# Altium schematic symbol library part_library2.SchLib: 9 symbols
Pins are listed as number, name and electrical type; pins without a type are passive.

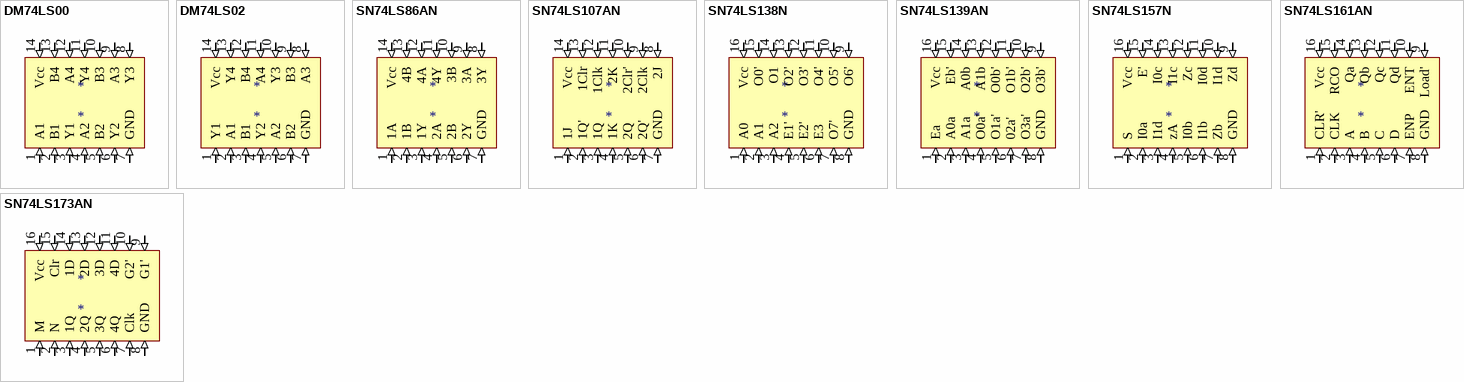
[diagram p0: symbols DM74LS00 to SN74LS173AN]

## DM74LS00
designator *
Quad NAND gate 14-pin DIP
footprint DM74LS00
pins: 1 A1 (in), 2 B1 (in), 3 Y1 (in), 4 A2 (in), 5 B2 (in), 6 Y2 (in), 7 GND (in), 8 Y3 (in), 9 A3 (in), 10 B3 (in), 11 Y4 (in), 12 A4 (in), 13 B4 (in), 14 Vcc (in)

## DM74LS02
designator *
Quad NOR gate 14-pin DIP
footprint DM74LS02
pins: 1 Y1 (in), 2 A1 (in), 3 B1 (in), 4 Y2 (in), 5 A2 (in), 6 B2 (in), 7 GND (in), 8 A3 (in), 9 B3 (in), 10 Y3 (in), 11 A4 (in), 12 B4 (in), 13 Y4 (in), 14 Vcc (in)

## SN74LS86AN
designator *
IC GATE XOR 4CH 2-INP 14-DIP; Manufacturer: Texas Instruments; Manufacturer Part Number: SN74LS86AN; Logic Function: XOR,OR; Number of Elements: 4; Propagation Delay: 30ns; Max Supply Voltage: 5.25V; Min Supply Voltage: 4.75V; Operating Supply Voltage: 5V; Number of Outputs: 1; Output Current: 8mA; Number of Inputs: 2; High Level Output Current: -400uA; Quiescent Current: 6.1mA; Schmitt Trigger Input: No; Supplier 1: Newark; Stock 1: 0; Mount: Through Hole; Case/Package: PDIP; Number of Pins: 14; Weight: 0.032734oz; Contact Plating: Gold; Min Operating Temperature: 0°C; Max Operating Temperature: 70°C; Packaging: Rail/Tube; Package Quantity: 25; Number of Circuits: 4; Number of Gates: 4; Number of Input Lines: 2; Number of Output Lines: 1; Low Level Output Current: 8mA; Turn-On Delay Time: 30ns; Number of Bits: 4; Length: 19.3mm; Height: 4.57mm; Width: 6.35mm; Radiation Hardening: No; Lead Free: Lead Free; REACH SVHC: No SVHC; ComponentLink1URL: http://focus.ti.com/lit/ds/symlink/sn74s86.pdf?src-supplier=Avnet+Europe; ComponentLink1Description: http://focus.ti.com/lit/ds/symlink/sn74s86.pdf?src-supplier=Avnet+Europe; ComponentLink2URL: https://www.distrelec.biz/Web/Downloads/39/_e/jl645539_e.pdf?mime=application%2Fpdf&src-supplier=Distrelec; ComponentLink2Description: https://www.distrelec.biz/Web/Downloads/39/_e/jl645539_e.pdf?mime=application%2Fpdf&src-supplier=Distrelec; ComponentLink3URL: http://www.produktinfo.conrad.com/datenblaetter/1000000-1099999/001017015-da-01-en-IC_QUA_2IN_EX_OR_SN74LS86AN_PDIP_14_TID.pdf?src-supplier=Conrad; ComponentLink3Description: http://www.produktinfo.conrad.com/datenblaetter/1000000-1099999/001017015-da-01-en-IC_QUA_2IN_EX_OR_SN74LS86AN_PDIP_14_TID.pdf?src-supplier=Conrad; ComponentLink4URL: http://www.produktinfo.conrad.com/datenblaetter/150000-174999/169331-da-01-en-IC_SN_74_LS_86AN_DIP14_TID.pdf?src-supplier=Conrad; ComponentLink4Description: http://www.produktinfo.conrad.com/datenblaetter/150000-174999/169331-da-01-en-IC_SN_74_LS_86AN_DIP14_TID.pdf?src-supplier=Conrad; Supplier Part Number 1: 50R6597
footprint SN74LS86AN
pins: 1 1A (in), 2 1B (in), 3 1Y (in), 4 2A (in), 5 2B (in), 6 2Y (in), 7 GND (in), 8 3Y (in), 9 3A (in), 10 3B (in), 11 4Y (in), 12 4A (in), 13 4B (in), 14 Vcc (in)

## SN74LS107AN
designator *
Flip Flop JK-Type Neg-Edge 2-Element 14-Pin PDIP Tube; Manufacturer: Texas Instruments; Manufacturer Part Number: SN74LS107AN; Operating Supply Voltage: 5V; Propagation Delay: 20ns; Frequency: 45MHz; Min Supply Voltage: 4.75V; Max Supply Voltage: 5.25V; Number of Elements: 2; Logic Function: Flip-Flop,JK-Type; Clock Edge Trigger Type: Negative Edge,Positive Edge; Output Current: 8mA; Polarity: Non-Inverting; Number of Input Lines: 4; Number of Bits per Element: 1; Turn-On Delay Time: 15ns; High Level Output Current: -400uA; Output Type: TTL; Nominal Supply Current: 100uA; Supplier 1: Newark; Stock 1: 0; Mount: Through Hole; Case/Package: PDIP; Number of Pins: 14; Weight: 0.032734oz; Min Operating Temperature: 0°C; Max Operating Temperature: 70°C; Packaging: Rail/Tube; Package Quantity: 25; Number of Circuits: 2; Low Level Output Current: 8mA; Number of Output Lines: 2; Number of Bits: 2; Max Frequency: 45MHz; Length: 19.69mm; Height: 4.57mm; Width: 6.6mm; Radiation Hardening: No; Lead Free: Lead Free; REACH SVHC: No SVHC; ComponentLink1URL: https://www.distrelec.biz/Web/Downloads/_t/ds/sn74ls107a_eng_tds.pdf?mime=application%2Fpdf&src-supplier=Distrelec; ComponentLink1Description: https://www.distrelec.biz/Web/Downloads/_t/ds/sn74ls107a_eng_tds.pdf?mime=application%2Fpdf&src-supplier=Distrelec; ComponentLink2URL: http://focus.ti.com/lit/ds/symlink/sn74107.pdf?src-supplier=Avnet+Europe; ComponentLink2Description: http://focus.ti.com/lit/ds/symlink/sn74107.pdf?src-supplier=Avnet+Europe; ComponentLink3URL: http://www.ti.com/general/docs/lit/getliterature.tsp?genericPartNumber=SN74LS107A&&fileType=pdf&src-supplier=Avnet; ComponentLink3Description: http://www.ti.com/general/docs/lit/getliterature.tsp?genericPartNumber=SN74LS107A&&fileType=pdf&src-supplier=Avnet; ComponentLink4URL: https://source.z2data.com/2016/10/12/6/26/54/563/639426/sn74107.pdf?src-supplier=Digi-Key; ComponentLink4Description: https://source.z2data.com/2016/10/12/6/26/54/563/639426/sn74107.pdf?src-supplier=Digi-Key; ComponentLink5URL: http://www.farnell.com/datasheets/1967736.pdf?src-supplier=Element14; ComponentLink5Description: http://www.farnell.com/datasheets/1967736.pdf?src-supplier=Element14; ComponentLink6URL: https://www.verical.com/server-webapp/html/getDatasheet?partID=250176&src-supplier=Verical; ComponentLink6Description: https://www.verical.com/server-webapp/html/getDatasheet?partID=250176&src-supplier=Verical; Supplier Part Number 1: 95M4428
footprint DM74LS107
pins: 1 1J (in), 2 1Q' (in), 3 1Q (in), 4 1K (in), 5 2Q (in), 6 2Q' (in), 7 GND (in), 8 2J (in), 9 2Clk (in), 10 2Clr' (in), 11 2K (in), 12 1Clk (in), 13 1Clr (in), 14 Vcc (in)

## SN74LS138N
designator *
IC 3-8 LINE DECODER/DEMUX 16-DIP; Manufacturer: Texas Instruments; Manufacturer Part Number: SN74LS138N; Number of Bits: 8; Number of Inputs: 3; Max Supply Voltage: 5.25V; Min Supply Voltage: 4.75V; Operating Supply Voltage: 5V; Propagation Delay: 41ns; Logic Function: Demultiplexer,Decoder; Number of Elements: 1; Polarity: Inverting; High Level Output Current: -400uA; Low Level Output Current: 8mA; Supply Type: Single; Bandwidth: 35MHz; Max Power Dissipation: 1mW; Quiescent Current: 6.3mA; Supplier 1: Newark; Stock 1: 0; Mount: Through Hole; Case/Package: PDIP; Number of Pins: 16; Weight: 0.03357oz; Contact Plating: Gold; Min Operating Temperature: 0°C; Max Operating Temperature: 70°C; Number of Outputs: 8; Packaging: Rail/Tube; Package Quantity: 25; Number of Input Lines: 3; Number of Output Lines: 8; Turn-On Delay Time: 41ns; Independent Circuits: 1; Number of Channels: 1; Number of Circuits: 1; Length: 19.3mm; Height: 4.57mm; Width: 6.35mm; Radiation Hardening: No; Lead Free: Lead Free; REACH SVHC: No SVHC; ComponentLink1URL: https://www.verical.com/server-webapp/html/getDatasheet?partID=134886&src-supplier=Verical; ComponentLink1Description: https://www.verical.com/server-webapp/html/getDatasheet?partID=134886&src-supplier=Verical; ComponentLink2URL: http://www.ti.com/lit/ds/symlink/sn54ls138-sp.pdf?src-supplier=Avnet+Europe; ComponentLink2Description: http://www.ti.com/lit/ds/symlink/sn54ls138-sp.pdf?src-supplier=Avnet+Europe; ComponentLink3URL: https://www.distrelec.biz/Web/Downloads/5_/en/qq646635_EN.pdf?mime=application%2Fpdf&src-supplier=Distrelec; ComponentLink3Description: https://www.distrelec.biz/Web/Downloads/5_/en/qq646635_EN.pdf?mime=application%2Fpdf&src-supplier=Distrelec; ComponentLink4URL: http://www.ti.com/general/docs/lit/getliterature.tsp?genericPartNumber=SN74S138A&&fileType=pdf&src-supplier=Avnet; ComponentLink4Description: http://www.ti.com/general/docs/lit/getliterature.tsp?genericPartNumber=SN74S138A&&fileType=pdf&src-supplier=Avnet; ComponentLink5URL: http://www.produktinfo.conrad.com/datenblaetter/150000-174999/169463-da-01-en-IC_SN_74_LS_138__N__DIP16__TID.pdf?src-supplier=Conrad; ComponentLink5Description: http://www.produktinfo.conrad.com/datenblaetter/150000-174999/169463-da-01-en-IC_SN_74_LS_138__N__DIP16__TID.pdf?src-supplier=Conrad; Supplier Part Number 1: 67T1483
footprint SN74LS138N
pins: 1 A0 (in), 2 A1 (in), 3 A2 (in), 4 E1' (in), 5 E2' (in), 6 E3 (in), 7 O7' (in), 8 GND (in), 9 O6' (in), 10 O5' (in), 11 O4' (in), 12 O3' (in), 13 O2' (in), 14 O1 (in), 15 O0' (in), 16 Vcc (in)

## SN74LS139AN
designator *
TEXAS INSTRUMENTS         SN74LS139AN            IC, DECODER/DEMUX, 74LS139; Operating Supply Voltage: 5V; Number of Elements: 2; Min Supply Voltage: 4.75V; Max Supply Voltage: 5.25V; Number of Outputs: 4; Propagation Delay: 33ns; Polarity: Inverting; High Level Output Current: -400uA; Low Level Output Current: 8mA; Supply Type: Single; Logic Function: Demultiplexer,Decoder; Turn-On Delay Time: 38ns; Bandwidth: 35MHz; Throw Configuration: DP4T; Nominal Supply Current: 100uA; Max Power Dissipation: 200mW; Supplier 1: RSComponents; Manufacturer: Texas Instruments; Manufacturer Part Number: SN74LS139AN; Stock 1: 0; Mount: Through Hole; Case/Package: PDIP; Number of Pins: 16; Weight: 0.03357oz; Min Operating Temperature: 0°C; Max Operating Temperature: 70°C; Packaging: Rail/Tube; Package Quantity: 25; Number of Inputs: 2; Independent Circuits: 2; Number of Input Lines: 2; Number of Output Lines: 4; Number of Bits: 4; Number of Channels: 2; Number of Circuits: 2; Length: 19.3mm; Height: 4.57mm; Width: 6.35mm; Radiation Hardening: No; Lead Free: Lead Free; REACH SVHC: No SVHC; ComponentLink1URL: http://www.farnell.com/datasheets/2018724.pdf?src-supplier=Element14; ComponentLink1Description: http://www.farnell.com/datasheets/2018724.pdf?src-supplier=Element14; ComponentLink2URL: https://www.distrelec.biz/Web/Downloads/57/06/lm645706.pdf?mime=application%2Fpdf&src-supplier=Distrelec; ComponentLink2Description: https://www.distrelec.biz/Web/Downloads/57/06/lm645706.pdf?mime=application%2Fpdf&src-supplier=Distrelec; ComponentLink3URL: http://www.ti.com/lit/ds/symlink/sn74s139a.pdf?src-supplier=Digi-Key; ComponentLink3Description: http://www.ti.com/lit/ds/symlink/sn74s139a.pdf?src-supplier=Digi-Key; ComponentLink4URL: https://www.verical.com/server-webapp/html/getDatasheet?partID=83287&src-supplier=Verical; ComponentLink4Description: https://www.verical.com/server-webapp/html/getDatasheet?partID=83287&src-supplier=Verical; Supplier Part Number 1: 308253
footprint SN74LS139AN
pins: 1 Ea (in), 2 A0a (in), 3 A1a (in), 4 O0a' (in), 5 O1a' (in), 6 02a' (in), 7 O3a' (in), 8 GND (in), 9 O3b' (in), 10 O2b' (in), 11 O1b' (in), 12 O0b' (in), 13 A1b (in), 14 A0b (in), 15 Eb' (in), 16 Vcc (in)

## SN74LS157N
designator *
TEXAS INSTRUMENTS         SN74LS157N            IC, 74LS, 74LS157, DIP16, 5.25V; Logic Function: Multiplexer; Propagation Delay: 14ns; Min Supply Voltage: 4.75V; Number of Input Lines: 2; Number of Output Lines: 1; Low Level Output Current: 8mA; High Level Output Current: -400uA; Supply Type: Single; Bandwidth: 35MHz; Number of Bits: 4; Polarity: Non-Inverting; Throw Configuration: DPST; Quiescent Current: 9.7mA; Number of Inputs: 8; Operating Supply Voltage: 5V; Max Power Dissipation: 500mW; Power Dissipation: 49mW; Supplier 1: RSComponents; Manufacturer: Texas Instruments; Manufacturer Part Number: SN74LS157N; Stock 1: 0; Mount: Through Hole; Case/Package: PDIP; Number of Pins: 16; Weight: 0.03357oz; Min Operating Temperature: 0°C; Max Operating Temperature: 70°C; Packaging: Rail/Tube; Max Supply Voltage: 5.25V; Package Quantity: 25; Independent Circuits: 1; Number of Circuits: 4; Number of Channels: 4; Number of Outputs: 4; Nominal Supply Current: 9.7mA; Length: 19.3mm; Height: 4.57mm; Width: 6.35mm; Radiation Hardening: No; Lead Free: Lead Free; REACH SVHC: No SVHC; ComponentLink1URL: http://www.farnell.com/datasheets/2008081.pdf?src-supplier=Element14; ComponentLink1Description: http://www.farnell.com/datasheets/2008081.pdf?src-supplier=Element14; ComponentLink2URL: https://www.verical.com/server-webapp/html/getDatasheet?partID=255449&src-supplier=Verical; ComponentLink2Description: https://www.verical.com/server-webapp/html/getDatasheet?partID=255449&src-supplier=Verical; ComponentLink3URL: http://focus.ti.com/lit/ds/symlink/sn74157.pdf?src-supplier=Avnet+Europe; ComponentLink3Description: http://focus.ti.com/lit/ds/symlink/sn74157.pdf?src-supplier=Avnet+Europe; ComponentLink4URL: https://www.distrelec.biz/Web/Downloads/82/_e/lg645682_e.pdf?mime=application%2Fpdf&src-supplier=Distrelec; ComponentLink4Description: https://www.distrelec.biz/Web/Downloads/82/_e/lg645682_e.pdf?mime=application%2Fpdf&src-supplier=Distrelec; ComponentLink5URL: http://www.ti.com/lit/ds/symlink/sn74ls157.pdf?src-supplier=Digi-Key; ComponentLink5Description: http://www.ti.com/lit/ds/symlink/sn74ls157.pdf?src-supplier=Digi-Key; ComponentLink6URL: http://www.produktinfo.conrad.com/datenblaetter/150000-174999/169536-da-01-en-IC_SN74_LS157N__DIP16__TID.pdf?src-supplier=Conrad; ComponentLink6Description: http://www.produktinfo.conrad.com/datenblaetter/150000-174999/169536-da-01-en-IC_SN74_LS157N__DIP16__TID.pdf?src-supplier=Conrad; ComponentLink7URL: http://datasheet.iiic.cc/texas_instruments/SN74LS157N.pdf?src-supplier=IIIC; ComponentLink7Description: http://datasheet.iiic.cc/texas_instruments/SN74LS157N.pdf?src-supplier=IIIC; Supplier Part Number 1: 0307676
footprint SN74LS157N
pins: 1 S (in), 2 I0a (in), 3 I1d (in), 4 zA (in), 5 I0b (in), 6 I1b (in), 7 Zb (in), 8 GND (in), 9 Zd (in), 10 I1d (in), 11 I0d (in), 12 Zc (in), 13 I1c (in), 14 I0c (in), 15 E' (in), 16 Vcc (in)

## SN74LS161AN
designator *
TEXAS INSTRUMENTS         SN74LS161AN            Counter Type:Binary; Number of Bits: 4; Operating Supply Voltage: 5V; Frequency: 32MHz; Number of Elements: 1; Direction: Up,Unidirectional; Reset: Asynchronous; Sync/Async: Synchronous; Clock Edge Trigger Type: Positive Edge; Min Supply Voltage: 4.75V; Max Supply Voltage: 5.25V; Propagation Delay: 35ns; Nominal Supply Current: 100uA; Supplier 1: Newark; Manufacturer: Texas Instruments; Manufacturer Part Number: SN74LS161AN; Stock 1: 0; Mount: Through Hole; Case/Package: PDIP; Number of Pins: 16; Weight: 0.03357oz; Min Operating Temperature: 0°C; Max Operating Temperature: 70°C; Packaging: Rail/Tube; Logic Function: Counter; Package Quantity: 25; Number of Bits per Element: 4; Number of Circuits: 4; Turn-On Delay Time: 35ns; Length: 19.3mm; Height: 4.57mm; Width: 6.35mm; Radiation Hardening: No; Lead Free: Contains Lead; REACH SVHC: No SVHC; ComponentLink1URL: http://www.ti.com/general/docs/lit/getliterature.tsp?genericPartNumber=SN74S163&&fileType=pdf&src-supplier=Avnet; ComponentLink1Description: http://www.ti.com/general/docs/lit/getliterature.tsp?genericPartNumber=SN74S163&&fileType=pdf&src-supplier=Avnet; ComponentLink2URL: https://www.verical.com/server-webapp/html/getDatasheet?partID=248154&src-supplier=Verical; ComponentLink2Description: https://www.verical.com/server-webapp/html/getDatasheet?partID=248154&src-supplier=Verical; ComponentLink3URL: https://www.distrelec.biz/Web/Downloads/56/54/kx645654.pdf?mime=application%2Fpdf&src-supplier=Distrelec; ComponentLink3Description: https://www.distrelec.biz/Web/Downloads/56/54/kx645654.pdf?mime=application%2Fpdf&src-supplier=Distrelec; ComponentLink4URL: http://www.ti.com/lit/ds/symlink/sn74ls163a.pdf?src-supplier=Digi-Key; ComponentLink4Description: http://www.ti.com/lit/ds/symlink/sn74ls163a.pdf?src-supplier=Digi-Key; ComponentLink5URL: http://www.produktinfo.conrad.com/datenblaetter/1000000-1099999/001016908-da-01-en-IC_4BIT_SYNC_CNT_SN74LS161AN_PDIP_16_TID.pdf?src-supplier=Conrad; ComponentLink5Description: http://www.produktinfo.conrad.com/datenblaetter/1000000-1099999/001016908-da-01-en-IC_4BIT_SYNC_CNT_SN74LS161AN_PDIP_16_TID.pdf?src-supplier=Conrad; Supplier Part Number 1: 95M4440
footprint SN74LS161AN
pins: 1 CLR' (in), 2 CLK (in), 3 A (in), 4 B (in), 5 C (in), 6 D (in), 7 ENP (in), 8 GND (in), 9 Load' (in), 10 ENT (in), 11 Qd (in), 12 Qc (in), 13 Qb (in), 14 Qa (in), 15 RCO (in), 16 Vcc (in)

## SN74LS173AN
designator *
TEXAS INSTRUMENTS   SN74LS173AN   Flip-Flop, Tri State Non Inverted, Positive Edge, D, 17 ns, 50 MHz, 24 mA, DIP, 16 Pins; Number of Elements: 1; Propagation Delay: 30ns; Frequency: 50MHz; Number of Bits per Element: 4; High Level Output Current: -2.6mA; Low Level Output Current: 24mA; Min Supply Voltage: 4.75V; Max Supply Voltage: 5.25V; Logic Function: D-Type; Turn-On Delay Time: 28ns; Polarity: Non-Inverting; Number of Input Lines: 2; Operating Supply Voltage: 5V; Output Type: TTL; Supplier 1: RSComponents; Manufacturer: Texas Instruments; Manufacturer Part Number: SN74LS173AN; Stock 1: 0; Mount: Through Hole; Case/Package: PDIP; Number of Pins: 16; Weight: 0.03357oz; Min Operating Temperature: 0°C; Max Operating Temperature: 70°C; Packaging: Rail/Tube; Clock Edge Trigger Type: Positive Edge; Output Current: 24mA; Package Quantity: 25; Number of Circuits: 1; Number of Output Lines: 1; Number of Bits: 4; Max Frequency: 50MHz; Length: 19.3mm; Height: 4.57mm; Width: 6.35mm; Radiation Hardening: No; Lead Free: Lead Free; REACH SVHC: No SVHC; ComponentLink1URL: https://www.distrelec.biz/Web/Downloads/56/11/kd645611.pdf?mime=application%2Fpdf&src-supplier=Distrelec; ComponentLink1Description: https://www.distrelec.biz/Web/Downloads/56/11/kd645611.pdf?mime=application%2Fpdf&src-supplier=Distrelec; ComponentLink2URL: http://focus.ti.com/lit/ds/symlink/sn74ls173a.pdf?src-supplier=Avnet+Europe; ComponentLink2Description: http://focus.ti.com/lit/ds/symlink/sn74ls173a.pdf?src-supplier=Avnet+Europe; ComponentLink3URL: http://www.ti.com/general/docs/lit/getliterature.tsp?genericPartNumber=SN54LS173A&&fileType=pdf&src-supplier=Avnet; ComponentLink3Description: http://www.ti.com/general/docs/lit/getliterature.tsp?genericPartNumber=SN54LS173A&&fileType=pdf&src-supplier=Avnet; ComponentLink4URL: https://www.verical.com/server-webapp/html/getDatasheet?partID=247094&src-supplier=Verical; ComponentLink4Description: https://www.verical.com/server-webapp/html/getDatasheet?partID=247094&src-supplier=Verical; ComponentLink5URL: http://www.ti.com/lit/ds/symlink/sn74ls173a.pdf?src-supplier=Digi-Key; ComponentLink5Description: http://www.ti.com/lit/ds/symlink/sn74ls173a.pdf?src-supplier=Digi-Key; ComponentLink6URL: http://datasheet.iiic.cc/texas_instruments/SN74LS173AN.pdf?src-supplier=IIIC; ComponentLink6Description: http://datasheet.iiic.cc/texas_instruments/SN74LS173AN.pdf?src-supplier=IIIC; Supplier Part Number 1: 1624294
footprint SN74LS173AN
pins: 1 M (in), 2 N (in), 3 1Q (in), 4 2Q (in), 5 3Q (in), 6 4Q (in), 7 Clk (in), 8 GND (in), 9 G1' (in), 10 G2' (in), 11 4D (in), 12 3D (in), 13 2D (in), 14 1D (in), 15 Clr (in), 16 Vcc (in)